# Altium footprint library TMC2209.PcbLib: 1 footprints
Each footprint in its own frame and in the unit in brackets; x right, y up, seen from the top. Pads: shape width x height; smd on the part's side, far side on the other; paste and mask are expansions set on the pad; w line width, h text height; cw(c..) or ccw(c..) is an arc to the next point about the centre after c.
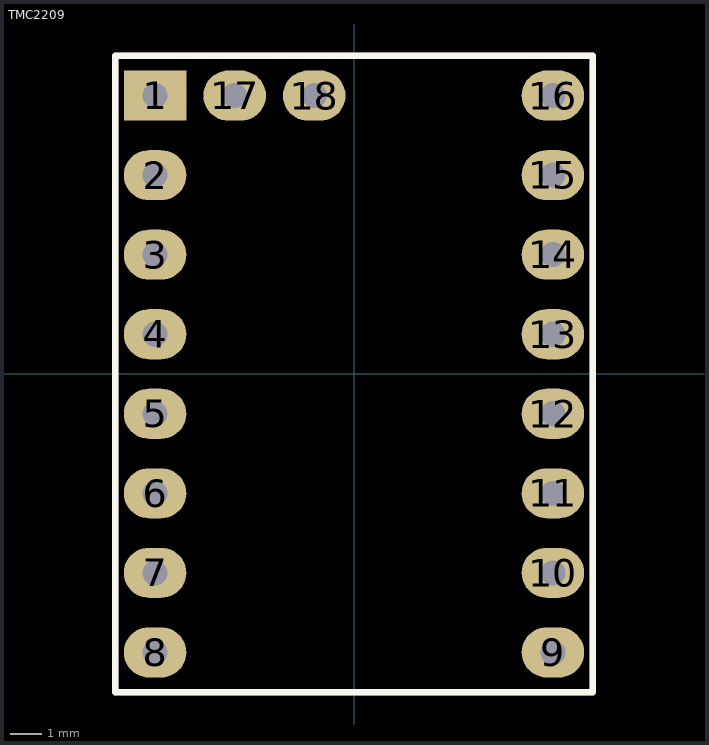
[diagram p0: the footprint, top view; thin cyan lines are the x and y axes]

## TMC2209 [mm]
pads (18):
  rect 2x1.6 hole 0.8 mask+0.051: 1(-6.35,8.89)
  oval 2x1.6 hole 0.8 mask+0.051: 2(-6.35,6.35) 3(-6.35,3.81) 4(-6.35,1.27) 5(-6.35,-1.27) 6(-6.35,-3.81) 7(-6.35,-6.35) 8(-6.35,-8.89) 9(6.35,-8.89) 10(6.35,-6.35) 11(6.35,-3.81) 12(6.35,-1.27) 13(6.35,1.27) 14(6.35,3.81) 15(6.35,6.35) 16(6.35,8.89) 17(-3.81,8.89) 18(-1.27,8.89)
Top Overlay:
  lines w0.2: -7.62,-10.16 -7.62,10.16 ; -7.62,-10.16 -7.62,10.16 ; -7.62,-10.16 7.62,-10.16 ; -7.62,-10.16 7.62,-10.16 ; -7.62,10.16 7.62,10.16 7.62,-10.16
Mechanical 13:
  lines w0.2: -7.62,-10.16 7.62,-10.16 ; -7.62,-10.16 7.62,-10.16 ; -7.62,-10.16 -7.62,10.16 ; -7.62,-10.16 -7.62,10.16 ; -7.62,10.16 7.62,10.16 ; -7.62,10.16 7.62,10.16 ; 7.62,-10.16 7.62,10.16 ; 7.62,-10.16 7.62,10.16
  text "'.Designator'" at -8.255,-12.446 h1.52
3D body "Driver TMC2209 v3.STEP": height 16.21, standoff -6.29, extent -7.815,-10.155 7.815,10.155